# Altium footprint library DFN65P101X53-2N.PcbLib: 1 footprints
Each footprint in its own frame and in the unit in brackets; x right, y up, seen from the top. Pads: shape width x height; smd on the part's side, far side on the other; paste and mask are expansions set on the pad; w line width, h text height; cw(c..) or ccw(c..) is an arc to the next point about the centre after c.
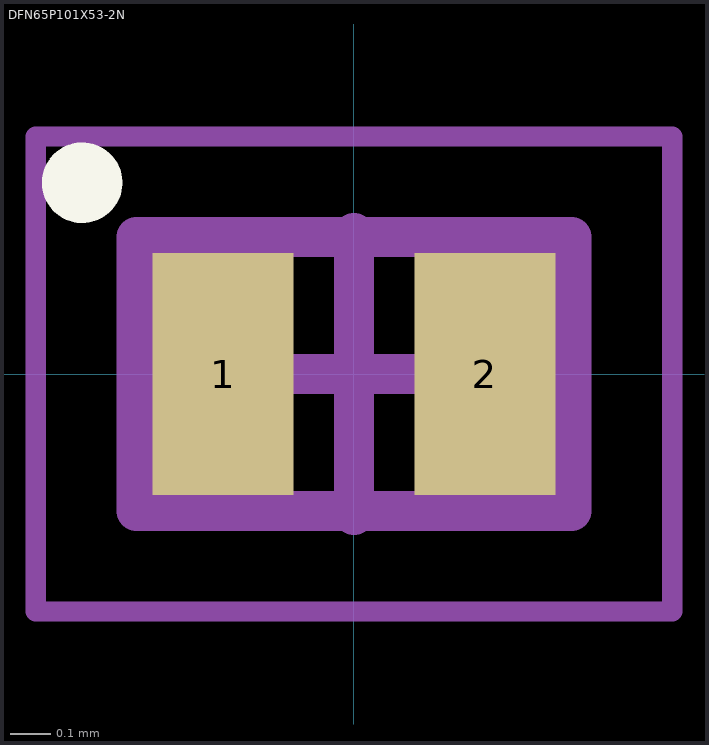
[diagram p0: the footprint, top view; thin cyan lines are the x and y axes]

## DFN65P101X53-2N [mm] "DFN, 2-Leads, Body 0.61x1.01mm, Pitch 0.65mm, IPC Medium Density"
height 0.53
pads (2):
  rect 0.35x0.6 smd: 1(-0.325,0) 2(0.325,0)
Top Overlay:
  circle w0.1: c-0.675,0.475 r0.05
Top 3D Body:
  lines w0.05: -0.79,-0.59 0.79,-0.59 0.79,0.59 -0.79,0.59 -0.79,-0.59
  lines w0.1: -0.5,0 0.5,0 ; 0,-0.35 0,0.35
Top Assembly:
  lines w0.1: -0.54,-0.34 0.54,-0.34 0.54,0.34 -0.54,0.34 -0.54,-0.34
3D body "DFN65P101X53-2N.step": height 0.53, standoff 0, extent -0.537,-0.337 0.538,0.338